# Altium footprint library Buck Converter.PcbLib: 6 footprints
Each footprint in its own frame and in the unit in brackets; x right, y up, seen from the top. Pads: shape width x height; smd on the part's side, far side on the other; paste and mask are expansions set on the pad; w line width, h text height; cw(c..) or ccw(c..) is an arc to the next point about the centre after c.
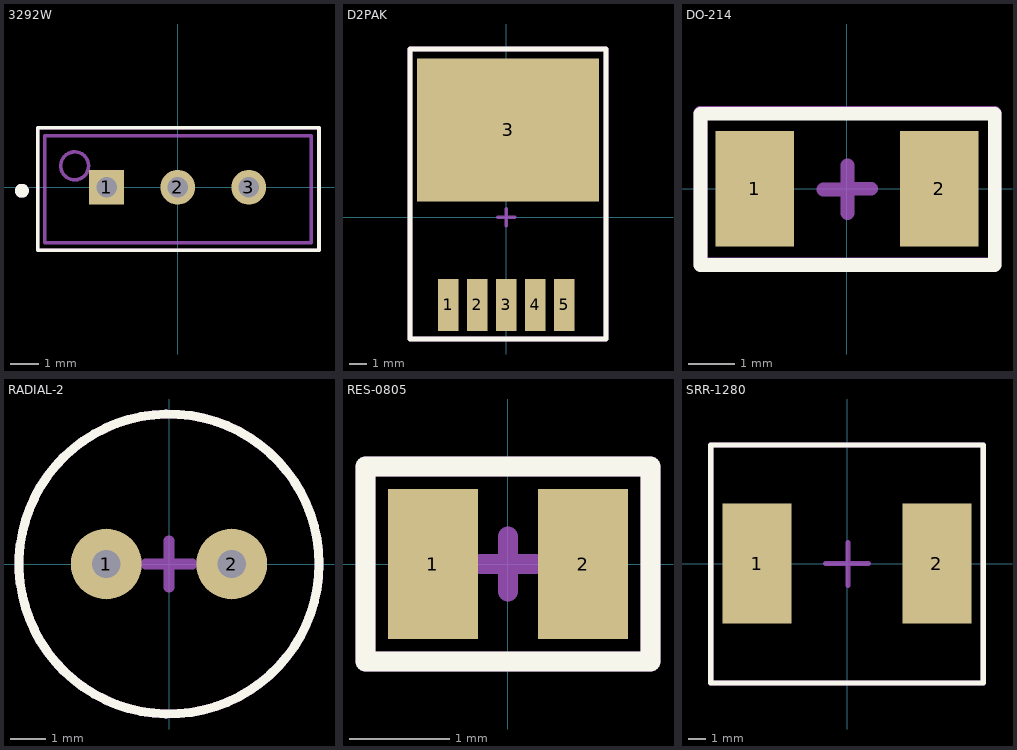
[diagram p0: the footprints below, top view; thin cyan lines are the x and y axes]

## 3292W [mm]
pads (3):
  rect 1.248x1.248 / inner round 1.248 / far side rect 1.248x1.248 hole 0.74: 1(-2.54,0)
  round 1.248 hole 0.74: 2(0,0) 3(2.54,0)
Top Overlay:
  circle w0.3: c-5.575,-0.125 r0.1
  lines w0.127: -5,-2.25 -5,2.125 5.05,2.125 5.05,-2.25 -5,-2.25
Mechanical 13:
  circle w0.127: c-3.685,0.765 r0.5
  lines w0.127: -4.75,-1.985 -4.75,1.835 4.78,1.835 4.78,-1.985 -4.75,-1.985
Mechanical 15:
  circle w0.3: c-5.575,-0.125 r0.1
  lines w0.127: -5,-2.25 -5,2.125 5.05,2.125 5.05,-2.25 -5,-2.25
3D body "3292W.stp": height 11.52, standoff -7.78, extent -4.784,-1.928 4.741,1.882

## D2PAK [mm]
pads (6):
  rect 1.2x3.05 smd: 1(-3.404,-5.125) 2(-1.702,-5.125) 3(0,-5.125) 4(1.702,-5.125) 5(3.404,-5.125)
  rect 10.66x8.38 smd: 3(0.096,5.125)
Top Overlay:
  lines w0.3: -5.654,-7.125 5.846,-7.125 5.846,9.875 -5.654,9.875 -5.654,-7.125
Mechanical 15:
  lines w0.2: -0.5,0 0.5,0 0,0 0,0.5 0,-0.5
  lines w0.3: -5.654,-7.125 -5.654,9.875 5.846,9.875 5.846,-7.125 -5.654,-7.125
3D body "TO263-5.STEP": height 4.65, standoff -0.15, extent -5.062,-5.901 5.098,8.45

## DO-214 [mm]
pads (2):
  rect 1.7x2.5 smd: 1(-2,0) 2(2,0)
Top Overlay:
  lines w0.3: -3.175,-1.65 3.2,-1.65 3.2,1.625 -3.175,1.625 -3.175,-1.65
Mechanical 15:
  lines w0.3: -0.511,-0.018 0.014,-0.018 ; 0,0 0.525,0 ; 0.014,-0.525 0.014,0 ; 0.014,-0.023 0.014,0.502 ; -3.175,-1.638 -3.175,1.637 3.2,1.637 3.2,-1.638 -3.175,-1.638
3D body "DO-214.step": height 2.34, standoff 0, extent -2.642,-1.397 2.642,1.397

## RADIAL-2 [mm]
pads (2):
  round 2 hole 0.8: 1(-1.775,0) 2(1.775,0)
Top Overlay:
  circle w0.254: c0,0 r4.243
Mechanical 15:
  circle w0.254: c0,0 r4.243
  lines w0.3: -0.66,0 0,0 ; 0,-0.66 0,0 ; 0,0.66 0,0 ; 0.66,0 0,0
3D body "ECA-1JM101.step": height 12.02, standoff -4.17, extent -4.023,-4 4.005,4

## RES-0805 [mm]
pads (2):
  rect 0.9x1.5 smd: 1(-0.75,0) 2(0.75,0)
Top Overlay:
  lines w0.2: -1.425,-0.975 1.425,-0.975 1.425,0.975 -1.425,0.975 -1.425,-0.975
Mechanical 15:
  lines w0.2: -0.275,0 0,0 ; 0,-0.275 0,0 ; 0,0.275 0,0 ; 0.275,0 0,0 ; -1.425,-0.975 1.425,-0.975 1.425,0.975 -1.425,0.975 -1.425,-0.975
3D body "RES-0805.STEP": height 0.65, standoff 0, extent -1,-0.625 1,0.625

## SRR-1280 [mm]
pads (2):
  rect 4x7 smd: 1(-5.25,0) 2(5.25,0)
Top Overlay:
  lines w0.3: -7.95,-6.975 7.95,-6.975 7.95,6.925 4.075,6.925 -3.675,6.925 -7.95,6.925 -7.95,-6.975
Mechanical 15:
  lines w0.3: -1.25,0 1.25,0 0,0 ; 0.053,-1.288 0.053,1.212 0.053,-0.038 ; -7.95,-6.975 7.95,-6.975 7.95,6.925 4.075,6.925 -3.675,6.925 -7.95,6.925 -7.95,-6.975
3D body "SRR1208.stp": height 8.25, standoff -0.25, extent -6.4,-6.325 6.3,6.375